# EAGLE library part PWR_LED_BOOST_SY7203DBC (library !GPLIB_ACTIVE)
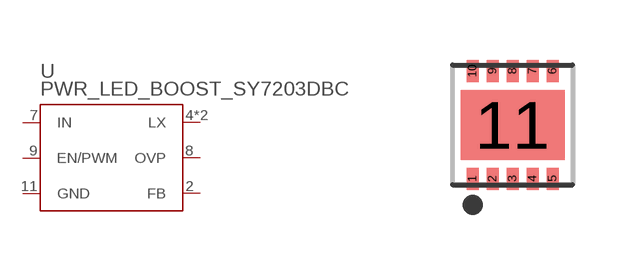
[diagram p16: symbol with the pads of DFN3X3-10; footprint DFN3X3-10]

Designator prefix U

## PWR_LED_BOOST_SY7203DBC  [DFN3X3-10]
2  FB  in
4  LX  pwr
5  LX  pwr
7  IN  pwr
8  OVP  pwr
9  EN/PWM  in
11  GND  pwr

## Footprint DFN3X3-10 (pad centres in mm)
DFN3X3-10, 0.50 mm pitch, 3.00 X 3.00 X 0.80 mm body
smd 0.3 x 0.55: 1 -1,-1.35; 2 -0.5,-1.35; 3 0,-1.35; 4 0.5,-1.35; 5 1,-1.35; 6 1,1.35; 7 0.5,1.35; 8 0,1.35; 9 -0.5,1.35; 10 -1,1.35
smd 2.6 x 1.75: 11 0,0